# Altium footprint library WE-PD2SR.PcbLib: 1 footprints
Each footprint in its own frame and in the unit in brackets; x right, y up, seen from the top. Pads: shape width x height; smd on the part's side, far side on the other; paste and mask are expansions set on the pad; w line width, h text height; cw(c..) or ccw(c..) is an arc to the next point about the centre after c.
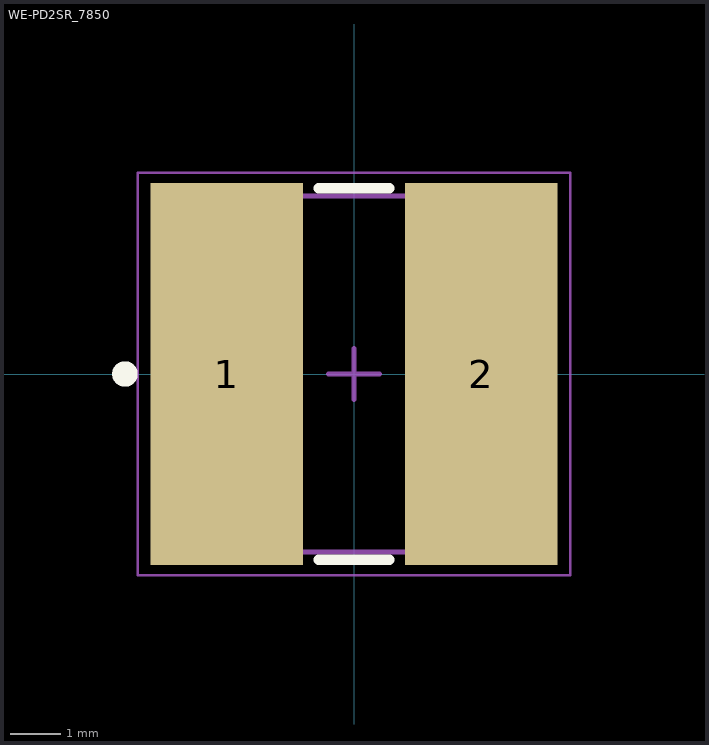
[diagram p0: the footprint, top view; thin cyan lines are the x and y axes]

## WE-PD2SR_7850 [mm] "SMD Shielded Power Inductor, body 7.8x7.0mm"
height 5
pads (2):
  rect 3x7.5 smd: 1(-2.5,0) 2(2.5,0)
Top Overlay:
  circle w0.25: c-4.5,0 r0.125
  lines w0.2: -0.7,-3.65 0.7,-3.65 ; -0.7,3.65 0.7,3.65
Top Assembly:
  circle w0.1: c-2,2 r0.35
  lines w0.1: -1.744,-3.488 cw(c0,0) -1.722,3.499 ; -1.722,-3.5 1.722,-3.5 ; -1.722,3.5 1.722,3.5 ; 1.722,3.499 cw(c0,0) 1.744,-3.488
Top Designator:
  text ".Designator" at -3.647,-0.357 h1
Top 3D Body:
  circle w0.1: c-2,2 r0.35
  lines w0.1: -1.744,-3.488 cw(c0,0) -1.722,3.499 ; -1.722,-3.5 1.722,-3.5 ; -1.722,3.5 1.722,3.5 ; 1.722,3.499 cw(c0,0) 1.744,-3.488
Top Courtyard:
  lines w0.05: -4.25,-3.95 -4.25,3.95 4.25,3.95 4.25,-3.95 -4.25,-3.95
Top Component Center:
  lines w0.1: -0.5,0 0.5,0 ; 0,-0.5 0,0.5
3D body "744787xxx.stp": height 5, standoff 0, extent -3.9,-3.5 3.9,3.5